# EAGLE library part MCP41XXX (library ERIC)
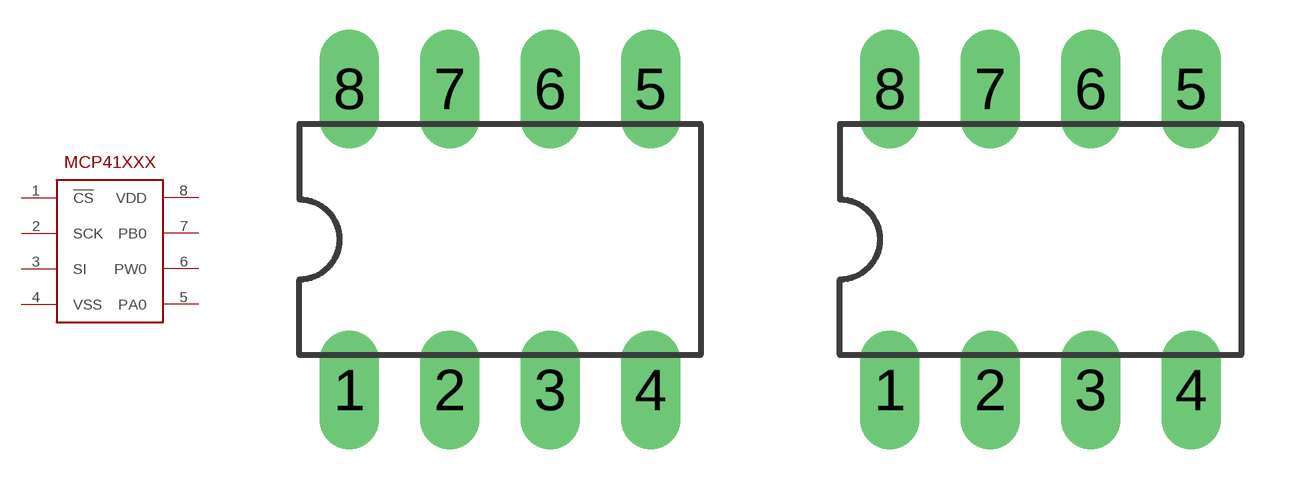
[diagram p8: symbol with the pads of DIP8; footprints DIP8, DIP8_OS]

Designator prefix -

## MCP41XXXDIP8  [DIP8]
1  !CS!  in
2  SCK  in
3  SI  in
4  VSS  pwr
5  PA0  pas
6  PW0  pas
7  PB0  pas
8  VDD  pwr

## MCP41XXXSINGLE_SIDE  [DIP8_OS]
Pads as for DIP8

## Footprint DIP8 (pad centres in mm)
drill 0.813 pad 1.5 long: 1 -3.81,-3.81; 2 -1.27,-3.81; 3 1.27,-3.81; 4 3.81,-3.81; 5 3.81,3.81; 6 1.27,3.81; 7 -1.27,3.81; 8 -3.81,3.81

## Footprint DIP8_OS (pad centres in mm)
drill 0.813 pad 1.5 long: 1 -3.81,-3.81; 2 -1.27,-3.81; 3 1.27,-3.81; 4 3.81,-3.81; 5 3.81,3.81; 6 1.27,3.81; 7 -1.27,3.81; 8 -3.81,3.81